# EAGLE library part MC3X063A (library mc3x063)
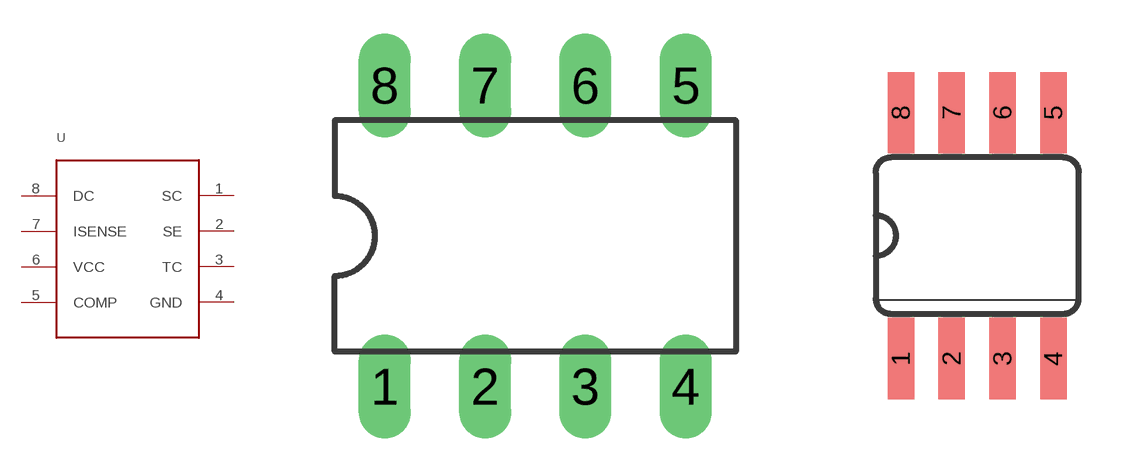
[diagram p0: symbol with the pads of DIL08; footprints DIL08, SO08]

Designator prefix -

## MC3X063AP  [DIL08]
1  SC
2  SE
3  TC
4  GND
5  COMP
6  VCC
7  ISENSE
8  DC

## MC3X063AD  [SO08]
Pads as for DIL08

## Footprint DIL08 (pad centres in mm)
Dual In Line Package
drill 0.813 long: 1 -3.81,-3.81; 2 -1.27,-3.81; 3 1.27,-3.81; 4 3.81,-3.81; 5 3.81,3.81; 6 1.27,3.81; 7 -1.27,3.81; 8 -3.81,3.81

## Footprint SO08 (pad centres in mm)
Small Outline package 150 mil
smd 0.66 x 2.032: 1 -1.905,-3.073; 2 -0.635,-3.073; 3 0.635,-3.073; 4 1.905,-3.073; 5 1.905,3.073; 6 0.635,3.073; 7 -0.635,3.073; 8 -1.905,3.073